# Altium footprint library MIcrocontrollers.PcbLib: 1 footprints
Each footprint in its own frame and in the unit in brackets; x right, y up, seen from the top. Pads: shape width x height; smd on the part's side, far side on the other; paste and mask are expansions set on the pad; w line width, h text height; cw(c..) or ccw(c..) is an arc to the next point about the centre after c.
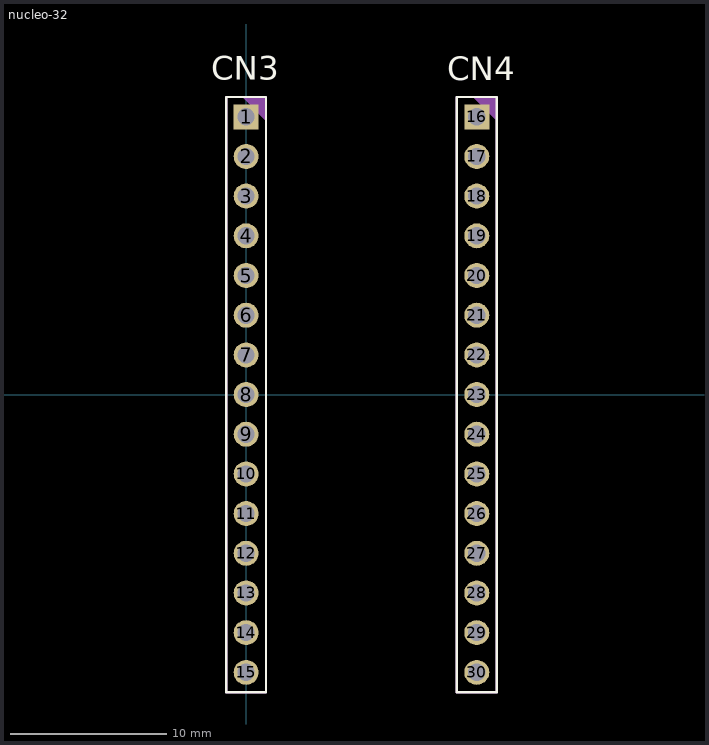
[diagram p0: the footprint, top view; thin cyan lines are the x and y axes]

## nucleo-32 [mm]
pads (30):
  rect 1.6x1.6 hole 1.1: 1(0,17.78) 16(14.76,17.78)
  round 1.6 hole 1.1: 2(0,15.24) 3(0,12.7) 4(0,10.16) 5(0,7.62) 6(0,5.08) 7(0,2.54) 8(0,0) 9(0,-2.54) 10(0,-5.08) 11(0,-7.62) 12(0,-10.16) 13(0,-12.7) 14(0,-15.24) 15(0,-17.78) 17(14.76,15.24) 18(14.76,12.7) 19(14.76,10.16) 20(14.76,7.62) 21(14.76,5.08) 22(14.76,2.54) 23(14.76,0) 24(14.76,-2.54) 25(14.76,-5.08) 26(14.76,-7.62) 27(14.76,-10.16) 28(14.76,-12.7) 29(14.76,-15.24) 30(14.76,-17.78)
Top Overlay:
  lines w0.15: -1.27,-19.05 1.27,-19.05 1.27,19.05 -1.27,19.05 -1.27,-19.05 ; 13.49,-19.05 16.03,-19.05 16.03,19.05 13.49,19.05 13.49,-19.05
  text "CN4" at 12.866,20.115 h1.52
  text "CN3" at -2.224,20.158 h1.52
Mechanical 29:
  region: 16.03,19.05 16.03,17.526 14.506,19.05
  region: 1.27,19.05 1.27,17.526 -0.254,19.05
  lines w0.15: -1.27,-19.05 -1.27,19.05 1.27,19.05 1.27,-19.05 -1.27,-19.05 ; 13.49,-19.05 13.49,19.05 16.03,19.05 16.03,-19.05 13.49,-19.05
3D body "PLS-1.STEP": height 8.5, standoff -3, extent 13.49,-19.05 16.03,-16.51
3D body "PLS-1.STEP": height 8.5, standoff -3, extent 13.49,-16.51 16.03,-13.97
3D body "PLS-1.STEP": height 8.5, standoff -3, extent 13.49,-13.97 16.03,-11.43
3D body "PLS-1.STEP": height 8.5, standoff -3, extent 13.49,-11.43 16.03,-8.89
3D body "PLS-1.STEP": height 8.5, standoff -3, extent 13.49,-8.89 16.03,-6.35
3D body "PLS-1.STEP": height 8.5, standoff -3, extent 13.49,-6.35 16.03,-3.81
3D body "PLS-1.STEP": height 8.5, standoff -3, extent 13.49,-3.81 16.03,-1.27
3D body "PLS-1.STEP": height 8.5, standoff -3, extent 13.49,-1.27 16.03,1.27
3D body "PLS-1.STEP": height 8.5, standoff -3, extent 13.49,1.27 16.03,3.81
3D body "PLS-1.STEP": height 8.5, standoff -3, extent 13.49,3.81 16.03,6.35
3D body "PLS-1.STEP": height 8.5, standoff -3, extent 13.49,6.35 16.03,8.89
3D body "PLS-1.STEP": height 8.5, standoff -3, extent 13.49,8.89 16.03,11.43
3D body "PLS-1.STEP": height 8.5, standoff -3, extent 13.49,11.43 16.03,13.97
3D body "PLS-1.STEP": height 8.5, standoff -3, extent 13.49,13.97 16.03,16.51
3D body "PLS-1.STEP": height 8.5, standoff -3, extent 13.49,16.51 16.03,19.05
3D body "PLS-1.STEP": height 8.5, standoff -3, extent -1.27,-19.05 1.27,-16.51
3D body "PLS-1.STEP": height 8.5, standoff -3, extent -1.27,-16.51 1.27,-13.97
3D body "PLS-1.STEP": height 8.5, standoff -3, extent -1.27,-13.97 1.27,-11.43
3D body "PLS-1.STEP": height 8.5, standoff -3, extent -1.27,-11.43 1.27,-8.89
3D body "PLS-1.STEP": height 8.5, standoff -3, extent -1.27,-8.89 1.27,-6.35
3D body "PLS-1.STEP": height 8.5, standoff -3, extent -1.27,-6.35 1.27,-3.81
3D body "PLS-1.STEP": height 8.5, standoff -3, extent -1.27,-3.81 1.27,-1.27
3D body "PLS-1.STEP": height 8.5, standoff -3, extent -1.27,-1.27 1.27,1.27
3D body "PLS-1.STEP": height 8.5, standoff -3, extent -1.27,1.27 1.27,3.81
3D body "PLS-1.STEP": height 8.5, standoff -3, extent -1.27,3.81 1.27,6.35
3D body "PLS-1.STEP": height 8.5, standoff -3, extent -1.27,6.35 1.27,8.89
3D body "PLS-1.STEP": height 8.5, standoff -3, extent -1.27,8.89 1.27,11.43
3D body "PLS-1.STEP": height 8.5, standoff -3, extent -1.27,11.43 1.27,13.97
3D body "PLS-1.STEP": height 8.5, standoff -3, extent -1.27,13.97 1.27,16.51
3D body "PLS-1.STEP": height 8.5, standoff -3, extent -1.27,16.51 1.27,19.05